# EAGLE library part MIC94090 (library Micrel_By_element14_Batch_1)
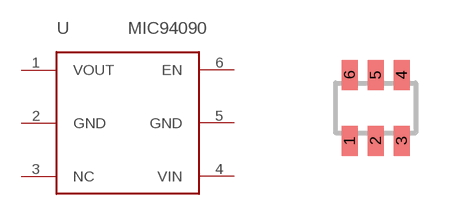
[diagram p15: symbol with the pads of SC-70-6; footprint SC-70-6]

Designator prefix U

## MIC94090  [SC-70-6]
1  VOUT
2  GND
3  NC
4  VIN
5  GND
6  EN

## Footprint SC-70-6 (pad centres in mm)
smd 0.4 x 0.75: 1 -0.65,-0.825; 2 0,-0.825; 3 0.65,-0.825; 4 0.65,0.825; 5 0,0.825; 6 -0.65,0.825